# Altium schematic symbol library RJMG212S21130ER.SchLib: 1 symbol
Pins are listed as number, name and electrical type; pins without a type are passive.

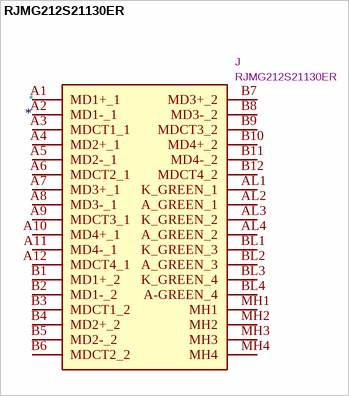
[diagram p0: symbol RJMG212S21130ER]

## RJMG212S21130ER
designator *  value RJMG212S21130ER  Reference: J
RJMG 1x2 1000 base-T, with led; Manufacturer_Name: Amphenol Communications Solutions; Footprint: RJMG212S21130ER; Datasheet: https://cdn.amphenol-cs.com/media/wysiwyg/files/documentation/datasheet/inputoutput/io_rjmag_1xn.pdf; Description_: RJMG 1x2 1000 base-T, with led; Height: 11.68; Manufacturer_Part_Number: RJMG212S21130ER; Mouser Part Number: 523-RJMG212S21130ER; Mouser Price/Stock: https://www.mouser.co.uk/ProductDetail/Amphenol-Commercial-Products/RJMG212S21130ER?qs=81r%252BiQLm7BQHHAbyYkJGqA%3D%3D
pins: A1 MD1+_1, A2 MD1-_1, A3 MDCT1_1, A4 MD2+_1, A5 MD2-_1, A6 MDCT2_1, A7 MD3+_1, A8 MD3-_1, A9 MDCT3_1, A10 MD4+_1, A11 MD4-_1, A12 MDCT4_1, AL1 K_GREEN_1, AL2 A_GREEN_1, AL3 K_GREEN_2, AL4 A_GREEN_2, B1 MD1+_2, B2 MD1-_2, B3 MDCT1_2, B4 MD2+_2, B5 MD2-_2, B6 MDCT2_2, B7 MD3+_2, B8 MD3-_2, B9 MDCT3_2, B10 MD4+_2, B11 MD4-_2, B12 MDCT4_2, BL1 K_GREEN_3, BL2 A_GREEN_3, BL3 K_GREEN_4, BL4 A-GREEN_4, MH1, MH2, MH3, MH4